# Altium schematic symbol library PCB_Project_1.SCHLIB: 21 symbols
Pins are listed as number, name and electrical type; pins without a type are passive.

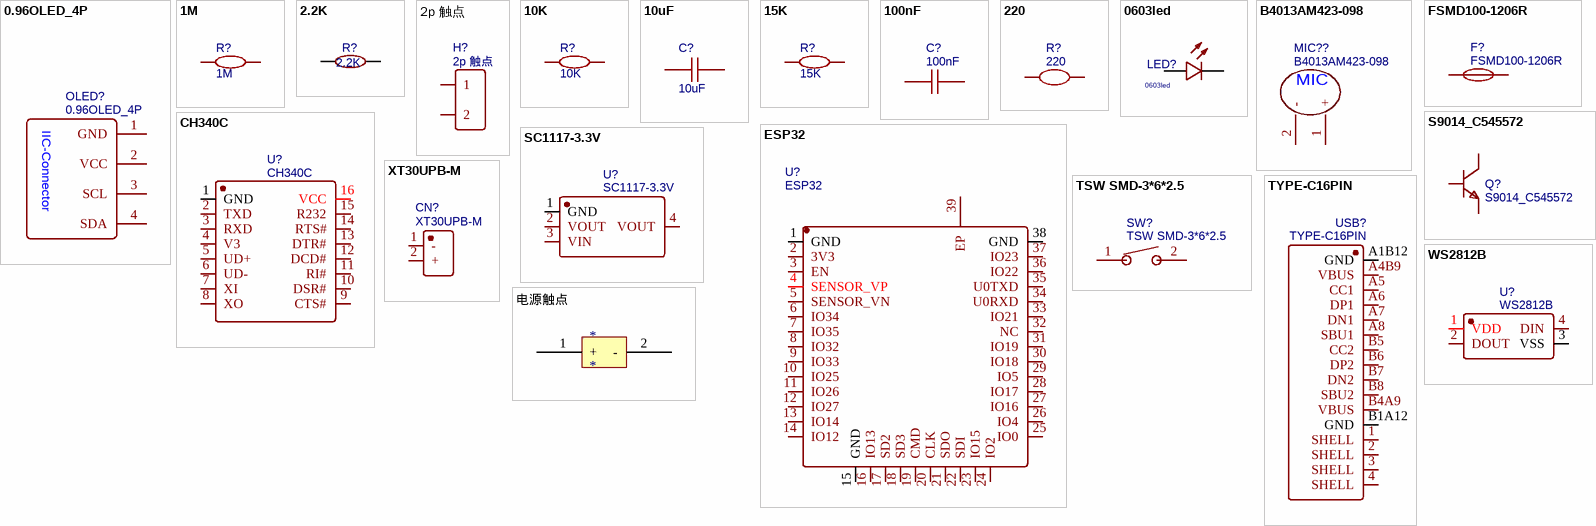
[diagram p0: symbols 0.96OLED_4P to 电源触点]

## 0.96OLED_4P
designator OLED?
BOM_Manufacturer: null; BOM_Manufacturer Part: 0.96OLED_4P_MODULE_JX; Contributor: LCSC; BOM_Supplier: LCSC; BOM_Supplier Part: C9900004566; spicePre: O; spiceSymbolName: 0.96OLED_4P_MODULE_JX
footprint OLED
pins: 1 GND, 2 VCC, 3 SCL, 4 SDA
text: IIC-Connector

## 1M
designator R?
BOM_Manufacturer: Stackpole Elec; BOM_Manufacturer Part: RMCF0603JT10K0; nameAlias: Resistance (Ohms); Contributor: LCSC; BOM_Supplier: LCSC; BOM_Supplier Part: C238881; spicePre: R; spiceSymbolName: RMCF0603JT10K0
footprint R 0603_L (1/10W贴片电阻                 淘宝ID:黄晶宝石)
pins: 1, 2

## 2.2K
designator R?
BOM_Manufacturer: UniOhm; BOM_Manufacturer Part: 0603WAF2201T5E; nameAlias: Resistance (Ohms); SMT Type: Basic; BOM_Supplier: LCSC; BOM_LCSC Assembly: Yes; BOM_Supplier Part: C4190; spicePre: R; spiceSymbolName: 0603WAF2201T5E
footprint R 0603_L (1/10W贴片电阻                 淘宝ID:黄晶宝石)
pins: 1, 2

## 2p 触点
designator H?
BOM_Manufacturer: TE Connectivity; BOM_Manufacturer Part: 826629-2; Package Display: No; BOM_Supplier: LCSC; BOM_Supplier Part: C86471; BOM_JLCPCB Part Class: Extended Part; spicePre: H; spiceSymbolName: Header-Male-2.54_1x2
footprint PCBComponent_1
pins: 1, 2

## 10K
designator R?
BOM_Manufacturer: Stackpole Elec; BOM_Manufacturer Part: RMCF0603JT10K0; nameAlias: Resistance (Ohms); Contributor: LCSC; BOM_Supplier: LCSC; BOM_Supplier Part: C238881; spicePre: R; spiceSymbolName: RMCF0603JT10K0
footprint R 0603_L (1/10W贴片电阻                 淘宝ID:黄晶宝石)
pins: 1, 2

## 10uF
designator C?
BOM_Manufacturer: MuRata; BOM_Manufacturer Part: GRM188R61A106KE69D; nameAlias: Capacitance; BOM_Supplier: LCSC; BOM_Supplier Part: C77044; spicePre: C; spiceSymbolName: GRM188R61A106KE69D
footprint C 0603_M (无极性贴片电容                                淘宝ID:黄晶宝石)
pins: 1, 2

## 15K
designator R?
BOM_Manufacturer: Stackpole Elec; BOM_Manufacturer Part: RMCF0603JT10K0; nameAlias: Resistance (Ohms); Contributor: LCSC; BOM_Supplier: LCSC; BOM_Supplier Part: C238881; spicePre: R; spiceSymbolName: RMCF0603JT10K0
footprint R 0603_L (1/10W贴片电阻                 淘宝ID:黄晶宝石)
pins: 1, 2

## 100nF
designator C?
BOM_Manufacturer: YAGEO; BOM_Manufacturer Part: CC0603KRX7R9BB104; nameAlias: Capacitance; SMT Type: Basic; BOM_Supplier: LCSC; BOM_LCSC Assembly: Yes; BOM_Supplier Part: C14663; spicePre: C; spiceSymbolName: CC0603KRX7R9BB104
footprint C 0603_M (无极性贴片电容                                淘宝ID:黄晶宝石)
pins: 1, 2

## 220
designator R?
nameAlias: Value(Ω); Contributor: LCEDA_Lib; spicePre: R; spiceSymbolName: R_0603_EU
footprint R 0603_L (1/10W贴片电阻                 淘宝ID:黄晶宝石)
pins: 1, 2

## 0603led
designator LED?
BOM_Manufacturer: EVERLIGHT; BOM_Manufacturer Part: 19-217/GHC-YR1S2/3T; SMT Type: Basic; BOM_Supplier: LCSC; BOM_LCSC Assembly: Yes; image: //image.lceda.cn/szlcsc/C72043.jpg; BOM_Supplier Part: C72043; spicePre: L; spiceSymbolName: 19-217/GHC-YR1S2/3T
footprint LED
pins: 1 A, 2 C

## B4013AM423-098
designator MIC??
BOM_Manufacturer: Goertek(歌尔); Contributor: LCSC; BOM_Supplier: LCSC; BOM_Supplier Part: C2835889; BOM_Manufacturer Part: B4013AM423-098; spicePre: M; spiceSymbolName: B4013AM423-098
footprint MIC-SMD_BD4.0
pins: 1 +, 2 -
text: MIC

## CH340C
designator U?
BOM_Manufacturer: WCH; SMT Type: Extend; BOM_Supplier: LCSC; BOM_Manufacturer Part: CH340C; BOM_Supplier Part: C84681; BOM_LCSC Assembly: Yes; spicePre: U; spiceSymbolName: CH340C
footprint CH340C
pins: 1 GND, 2 TXD, 3 RXD, 4 V3, 5 UD+, 6 UD-, 7 XI, 8 XO, 9 CTS#, 10 DSR#, 11 RI#, 12 DCD#, 13 DTR#, 14 RTS#, 15 R232, 16 VCC

## ESP32
designator U?
BOM_Manufacturer: Ai-Thinker; BOM_Manufacturer Part: ESP32-S; Contributor: LCSC; BOM_Supplier: LCSC; BOM_Supplier Part: C277944; spicePre: U; spiceSymbolName: ESP32-S
footprint ESP32
pins: 1 GND, 2 3V3, 3 EN, 4 SENSOR_VP, 5 SENSOR_VN, 6 IO34, 7 IO35, 8 IO32, 9 IO33, 10 IO25, 11 IO26, 12 IO27, 13 IO14, 14 IO12, 15 GND, 16 IO13, 17 SD2, 18 SD3, 19 CMD, 20 CLK, 21 SDO, 22 SDI, 23 IO15, 24 IO2, 25 IO0, 26 IO4, 27 IO16, 28 IO17, 29 IO5, 30 IO18, 31 IO19, 32 NC, 33 IO21, 34 U0RXD, 35 U0TXD, 36 IO22, 37 IO23, 38 GND, 39 EP

## FSMD100-1206R
designator F?
BOM_Manufacturer: TECHFUSE; BOM_Manufacturer Part: 0603-075; BOM_Supplier: LCSC; BOM_Supplier Part: C70053; spicePre: F; spiceSymbolName: 0603-075
footprint FSMD100-1206R
pins: 1, 2

## S9014_C545572
designator Q?
BOM_Manufacturer: UMW(Youtai Semiconductor Co., Ltd.); BOM_Manufacturer Part: S9014; Contributor: LCSC; BOM_Supplier: LCSC; BOM_Supplier Part: C545572; BOM_JLCPCB Part Class: Extended Part; spicePre: Q; spiceSymbolName: S9014_C545572
footprint SOT23 (封装库来自淘宝卖家 ID：黄晶宝石)
pins: 1, 2 E, 3 C

## SC1117-3.3V
designator U?
BOM_Manufacturer: FM; Contributor: LCSC; SMT Type: Extend; BOM_Supplier: LCSC; BOM_Manufacturer Part: SC1117-3.3V; BOM_Supplier Part: C173386; BOM_LCSC Assembly: Yes; spicePre: U; spiceSymbolName: SC1117-3.3V
footprint SC1117-3.3V
pins: 1 GND, 2 VOUT, 3 VIN, 4 VOUT

## TSW SMD-3*6*2.5
designator SW?
BOM_Manufacturer: BRIGHT; BOM_Manufacturer Part: TSA343G00-250J2; Contributor: LCSC; BOM_Supplier: LCSC; BOM_Supplier Part: C354946; spicePre: S; spiceSymbolName: TSA343G00-250J2
footprint TSW SMD-3*6*2.5 (3*6*2.5mm)
pins: 1, 2

## TYPE-C16PIN
designator USB?
BOM_Manufacturer: SHOU HAN; Contributor: LCSC; BOM_Supplier: LCSC; BOM_Supplier Part: C393939; BOM_Manufacturer Part: TYPE-C16PIN; spicePre: U; spiceSymbolName: TYPE-C16PIN
footprint TYPE-C16PIN
pins: 1 SHELL, 2 SHELL, 3 SHELL, 4 SHELL, A1B12 GND, A4B9 VBUS, A5 CC1, A6 DP1, A7 DN1, A8 SBU1, B1A12 GND, B4A9 VBUS, B5 CC2, B6 DP2, B7 DN2, B8 SBU2

## WS2812B
designator U?
BOM_Manufacturer: null; Contributor: LCSC; BOM_Supplier: LCSC; BOM_Supplier Part: C9900004137; BOM_Manufacturer Part: WS2812B; BOM_JLCPCB Part Class: Extended Part; spicePre: U; spiceSymbolName: WS2812B_C9900004137
footprint WS2812B_5050
pins: 1 VDD, 2 DOUT, 3 VSS, 4 DIN

## XT30UPB-M
designator CN?
BOM_Manufacturer: Changzhou Amass Elec; Contributor: LCSC; BOM_Supplier: LCSC; BOM_Supplier Part: C428721; BOM_Manufacturer Part: XT30UPB-M; BOM_JLCPCB Part Class: Extended Part; spicePre: C; spiceSymbolName: XT30UPB-M
footprint XT30UPB-M
pins: 1 -, 2 +

## 电源触点
designator *
footprint 触点
pins: 1 +, 2 -